# Altium integrated library DS1834S_.IntLib: 1 symbol
Pins are listed as number, name and electrical type; pins without a type are passive.

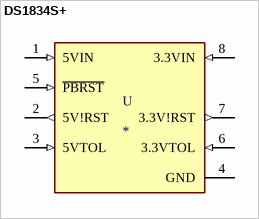
[diagram p0: symbol DS1834S+]

## DS1834S+
designator U
Supervisor Open Drain or Open Collector 2 Channel 8-SOIC; MF: Maxim Integrated; MP: DS1834S+; Value: *; Package: SOIC-8 Maxim; Price: None; Availability: Unavailable; SnapEDA_Link: https://www.snapeda.com/parts/DS1834S+/Maxim%20Integrated/view-part/1185071/?ref=snap
footprint SOIC127P600X175-8N
pins: 1 5VIN (in), 2 5V!RST (out), 3 5VTOL (in), 4 GND (power), 5 ~{PBRST} (in), 6 3.3VTOL (in), 7 3.3V!RST (out), 8 3.3VIN (in)